# Altium footprint library Footprint_SMT_IC_BGA_LGA.PcbLib: 3 footprints
Each footprint in its own frame and in the unit in brackets; x right, y up, seen from the top. Pads: shape width x height; smd on the part's side, far side on the other; paste and mask are expansions set on the pad; w line width, h text height; cw(c..) or ccw(c..) is an arc to the next point about the centre after c.
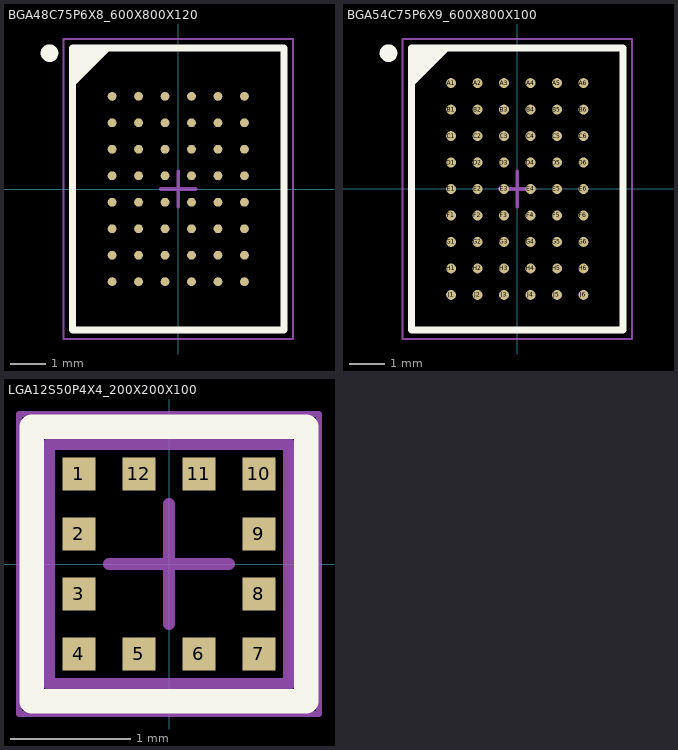
[diagram p0: the footprints below, top view; thin cyan lines are the x and y axes]

## BGA48C75P6X8_600X800X120 [mm] "BGA, 48-Leads, Body 6.00x8.00mmx1.20mm, Pitch 0.75mm"
height 1.2
pads (48):
  round 0.25 smd: A1(-1.875,2.625) A2(-1.125,2.625) A3(-0.375,2.625) A4(0.375,2.625) A5(1.125,2.625) A6(1.875,2.625) B1(-1.875,1.875) B2(-1.125,1.875) B3(-0.375,1.875) B4(0.375,1.875) B5(1.125,1.875) B6(1.875,1.875) C1(-1.875,1.125) C2(-1.125,1.125) C3(-0.375,1.125) C4(0.375,1.125) C5(1.125,1.125) C6(1.875,1.125) D1(-1.875,0.375) D2(-1.125,0.375) D3(-0.375,0.375) D4(0.375,0.375) D5(1.125,0.375) D6(1.875,0.375) E1(-1.875,-0.375) E2(-1.125,-0.375) E3(-0.375,-0.375) E4(0.375,-0.375) E5(1.125,-0.375) E6(1.875,-0.375) F1(-1.875,-1.125) F2(-1.125,-1.125) F3(-0.375,-1.125) F4(0.375,-1.125) F5(1.125,-1.125) F6(1.875,-1.125) G1(-1.875,-1.875) G2(-1.125,-1.875) G3(-0.375,-1.875) G4(0.375,-1.875) G5(1.125,-1.875) G6(1.875,-1.875) H1(-1.875,-2.625) H2(-1.125,-2.625) H3(-0.375,-2.625) H4(0.375,-2.625) H5(1.125,-2.625) H6(1.875,-2.625)
Top Overlay:
  circle w0.25: c-3.65,3.85 r0.125
  region: -2,4 -3,3 -3,4
  lines w0.2: -3,3 -2,4 ; -3,-4 3,-4 3,4 -3,4 -3,-4
Mechanical 13:
  lines w0.1: -3,-4 3,-4 3,4 -3,4 -3,-4
Mechanical 15:
  lines w0.05: -3.25,-4.25 3.25,-4.25 3.25,4.25 -3.25,4.25 -3.25,-4.25
  lines w0.1: -0.5,0 0.5,0 ; 0,-0.5 0,0.5
3D body "BGA48C75P6X8_600X800X120.step": height 1.2, standoff 0, extent -3,-4 3,4

## BGA54C75P6X9_600X800X100 [mm] "BGA, 54-Leads, Body 6.00x8.00mmx1.00mm, Pitch 0.75mm"
height 1
pads (54):
  round 0.28 smd: A1(-1.875,3) A2(-1.125,3) A3(-0.375,3) A4(0.375,3) A5(1.125,3) A6(1.875,3) B1(-1.875,2.25) B2(-1.125,2.25) B3(-0.375,2.25) B4(0.375,2.25) B5(1.125,2.25) B6(1.875,2.25) C1(-1.875,1.5) C2(-1.125,1.5) C3(-0.375,1.5) C4(0.375,1.5) C5(1.125,1.5) C6(1.875,1.5) D1(-1.875,0.75) D2(-1.125,0.75) D3(-0.375,0.75) D4(0.375,0.75) D5(1.125,0.75) D6(1.875,0.75) E1(-1.875,0) E2(-1.125,0) E3(-0.375,0) E4(0.375,0) E5(1.125,0) E6(1.875,0) F1(-1.875,-0.75) F2(-1.125,-0.75) F3(-0.375,-0.75) F4(0.375,-0.75) F5(1.125,-0.75) F6(1.875,-0.75) G1(-1.875,-1.5) G2(-1.125,-1.5) G3(-0.375,-1.5) G4(0.375,-1.5) G5(1.125,-1.5) G6(1.875,-1.5) H1(-1.875,-2.25) H2(-1.125,-2.25) H3(-0.375,-2.25) H4(0.375,-2.25) H5(1.125,-2.25) H6(1.875,-2.25) J1(-1.875,-3) J2(-1.125,-3) J3(-0.375,-3) J4(0.375,-3) J5(1.125,-3) J6(1.875,-3)
Top Overlay:
  circle w0.25: c-3.65,3.85 r0.125
  region: -2,4 -3,3 -3,4
  lines w0.2: -3,3 -2,4 ; -3,-4 -3,4 3,4 3,-4 -3,-4
Mechanical 13:
  lines w0.1: -3,-4 -3,4 3,4 3,-4 -3,-4
Mechanical 15:
  lines w0.05: -3.25,-4.25 -3.25,4.25 3.25,4.25 3.25,-4.25 -3.25,-4.25
  lines w0.1: -0.5,0 0.5,0 ; 0,-0.5 0,0.5
3D body "BGA54C75P6X9_600X800X100.step": height 1, standoff 0, extent -3,-4 3,4

## LGA12S50P4X4_200X200X100 [mm] "LGA, 12-Leads, Body 2.00x2.00mmx1.00mm, Pitch 0.50mm"
height 1
pads (12):
  rect 0.275x0.275 smd: 1(-0.75,0.75) 2(-0.75,0.25) 3(-0.75,-0.25) 4(-0.75,-0.75) 5(-0.25,-0.75) 6(0.25,-0.75) 7(0.75,-0.75) 8(0.75,-0.25) 9(0.75,0.25) 10(0.75,0.75) 11(0.25,0.75) 12(-0.25,0.75)
Top Overlay:
  lines w0.203: -1.143,-1.143 -1.143,1.143 1.143,1.143 1.143,-1.143 -1.143,-1.143
Mechanical 13:
  lines w0.1: -1,-1 1,-1 1,1 -1,1 -1,-1
Mechanical 15:
  lines w0.05: -1.25,-1.25 1.25,-1.25 1.25,1.25 -1.25,1.25 -1.25,-1.25
  lines w0.1: -0.5,0 0.5,0 ; 0,-0.5 0,0.5
3D body "LGA12S50P4X4_200X200X100.step": height 1, standoff 0, extent -1.05,-1.05 1.05,1.05